# Altium schematic symbol library PMEG4050EP.SchLib: 1 symbol
Pins are listed as number, name and electrical type; pins without a type are passive.

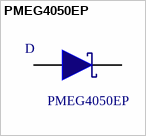
[diagram p0: symbol PMEG4050EP]

## PMEG4050EP
designator D  value PMEG4050EP  (hidden comment: *)
Manufacturer: NXP Semiconductors; Current: 5A; Farnell Code: 1829203; Manufacturer Code: PMEG4050EP; Unit Price: 0,31 €
footprint SOD128
pins: 1, 2